# Altium footprint library whong.PcbLib: 68 footprints (part 5 of 5)
Each footprint in its own frame and in the unit in brackets; x right, y up, seen from the top. Pads: shape width x height; smd on the part's side, far side on the other; paste and mask are expansions set on the pad; w line width, h text height; cw(c..) or ccw(c..) is an arc to the next point about the centre after c.
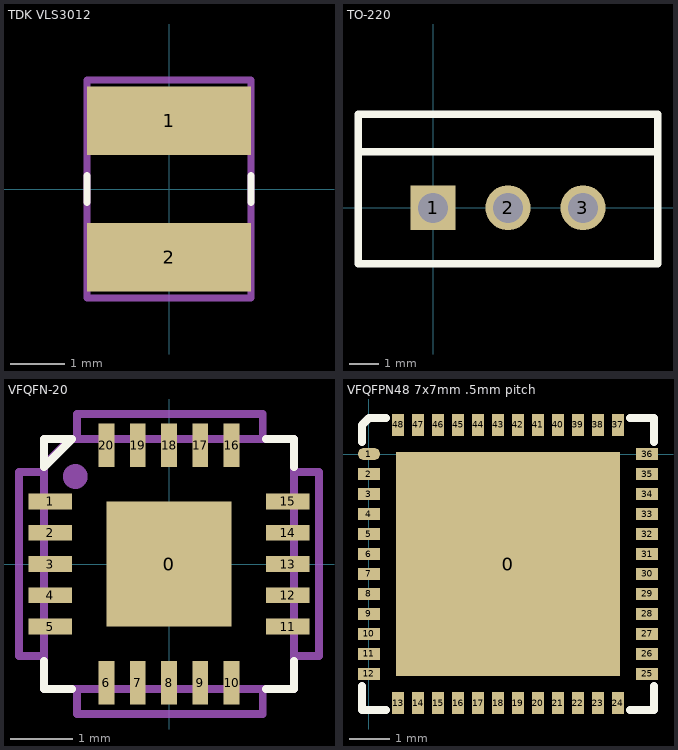
[diagram p4: the footprints below, top view; thin cyan lines are the x and y axes]

## TDK VLS3012 [mm] "http://media.digikey.com/PDF/Data%20Sheets/TDK%20PDFs/VLS3012.pdf"
height 1.2
pads (2):
  rect 3x1.25 smd: 1(0,1.25) 2(0,-1.25)
Top Overlay:
  lines w0.127: -1.5,-0.25 -1.5,0.25 ; 1.5,-0.25 1.5,0.25
Mechanical 6:
  lines w0.127: -1.5,-2 1.5,-2 1.5,2 -1.5,2 -1.5,-2
  text ".designator" at -1.5,-0.25 h0.7
3D body: height 1.2, standoff 0, extent -1.5,-1.5 1.5,1.5

## TO-220 [mil]
pads (3):
  rect 60x60 hole 40: 1(0,0)
  round 60 hole 40: 2(100,0) 3(200,0)
Top Overlay:
  lines w10: -100,75 300,75 ; -100,-75 -100,125 300,125 300,-75 -100,-75

## VFQFN-20 [mm] "VFQFN-20"
height 0.889
pads (21):
  rect 2x2 smd: 0(0,0)
  rect 0.7x0.25 smd: 1(-1.9,1) 2(-1.9,0.5) 3(-1.9,0) 4(-1.9,-0.5) 5(-1.9,-1) 11(1.9,-1) 12(1.9,-0.5) 13(1.9,0) 14(1.9,0.5) 15(1.9,1)
  rect 0.25x0.7 smd: 6(-1,-1.9) 7(-0.5,-1.9) 8(0,-1.9) 9(0.5,-1.9) 10(1,-1.9) 16(1,1.9) 17(0.5,1.9) 18(0,1.9) 19(-0.5,1.9) 20(-1,1.9)
Top Overlay:
  lines w0.127: -2,-1.55 -2,-2 -1.55,-2 ; 1.55,-2 2,-2 2,-1.55 ; 1.55,2 2,2 2,1.55 ; -2,1.55 -1.55,2 -2,2 -2,1.55
Mechanical 6:
  circle w0.254: c-1.5,1.4 r0.071
  lines w0.127: -2,-1.475 -2.4,-1.475 -2.4,1.475 -2,1.475 ; -2,1.55 -2,2 2,2 2,-2 -2,-2 -2,1.575 -1.575,2 ; -1.475,-2 -1.475,-2.4 1.5,-2.4 1.5,-2 ; -1.475,2 -1.475,2.4 1.5,2.4 1.5,2 ; 2,-1.475 2.4,-1.475 2.4,1.475 2,1.475
  text ".designator" at -1.5,-0.5 h0.7
3D body: height 0.89, standoff 0, extent -2,-2 2,2

## VFQFPN48 7x7mm .5mm pitch [mm]
pads (49):
  rect 5.6x5.6 smd: 0(3.475,-2.75)
  oval 0.55x0.3 smd: 1(0,0)
  rect 0.55x0.3 smd: 2(0,-0.5) 3(0,-1) 4(0,-1.5) 5(0,-2) 6(0,-2.5) 7(0,-3) 8(0,-3.5) 9(0,-4) 10(0,-4.5) 11(0,-5) 12(0,-5.5) 25(6.95,-5.5) 26(6.95,-5) 27(6.95,-4.5) 28(6.95,-4) 29(6.95,-3.5) 30(6.95,-3) 31(6.95,-2.5) 32(6.95,-2) 33(6.95,-1.5) 34(6.95,-1) 35(6.95,-0.5) 36(6.95,0)
  rect 0.3x0.55 smd: 13(0.725,-6.225) 14(1.225,-6.225) 15(1.725,-6.225) 16(2.225,-6.225) 17(2.725,-6.225) 18(3.225,-6.225) 19(3.725,-6.225) 20(4.225,-6.225) 21(4.725,-6.225) 22(5.225,-6.225) 23(5.725,-6.225) 24(6.225,-6.225) 37(6.225,0.725) 38(5.725,0.725) 39(5.225,0.725) 40(4.725,0.725) 41(4.225,0.725) 42(3.725,0.725) 43(3.225,0.725) 44(2.725,0.725) 45(2.225,0.725) 46(1.725,0.725) 47(1.225,0.725) 48(0.725,0.725)
Top Overlay:
  lines w0.2: -0.175,-5.8 -0.175,-6.4 0.425,-6.4 ; -0.175,0.3 -0.175,0.725 0,0.9 0.425,0.9 ; 6.525,-6.4 7.125,-6.4 7.125,-5.8 ; 6.525,0.9 7.125,0.9 7.125,0.3
3D body: height 1, standoff 0, extent -0.025,-6.25 6.975,0.75